# Altium footprint library PC104_44B0 V3.0.PcbLib: 40 footprints (part 3 of 3)
Each footprint in its own frame and in the unit in brackets; x right, y up, seen from the top. Pads: shape width x height; smd on the part's side, far side on the other; paste and mask are expansions set on the pad; w line width, h text height; cw(c..) or ccw(c..) is an arc to the next point about the centre after c.
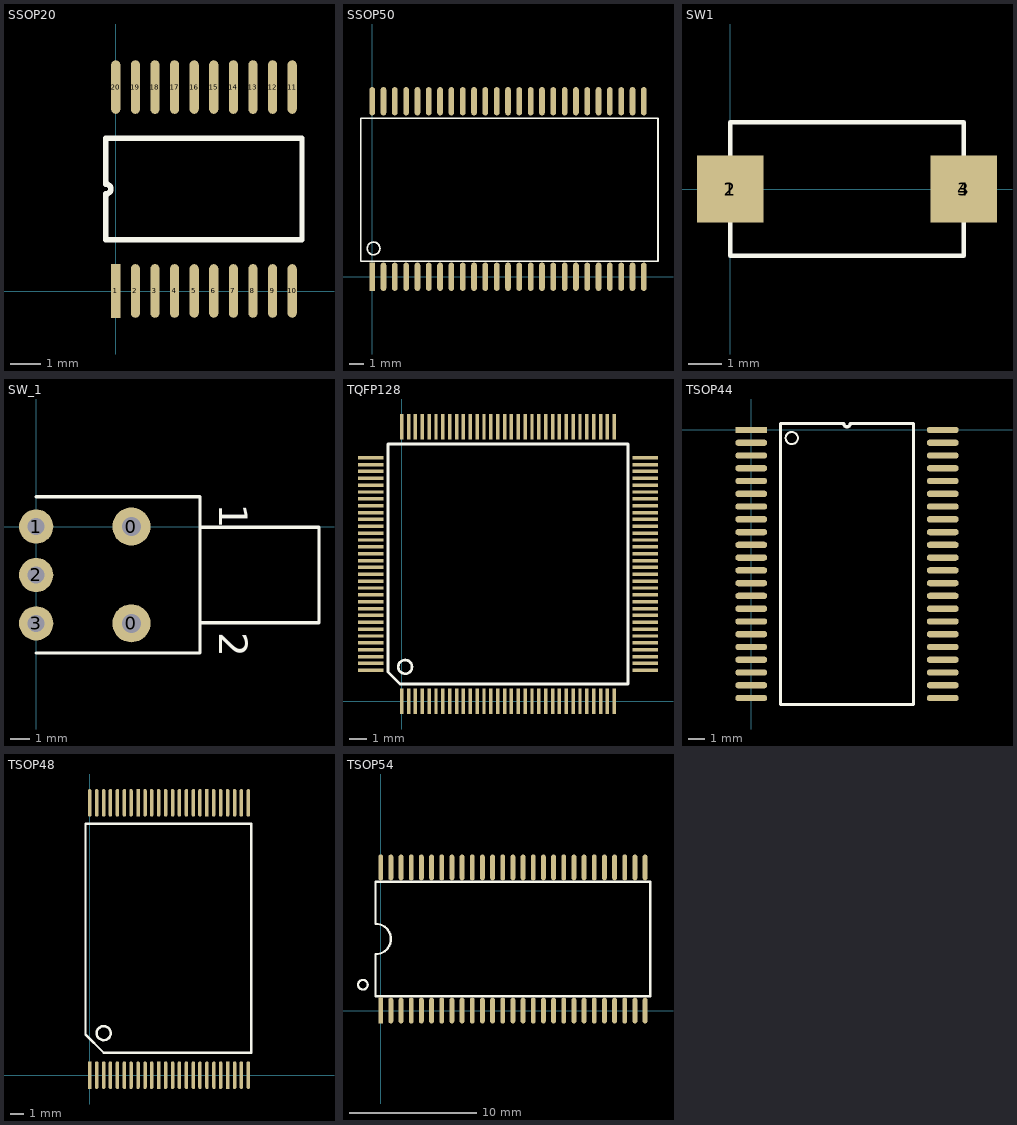
[diagram p2: the footprints below, top view; thin cyan lines are the x and y axes]

## SSOP20 [mil]
pads (20):
  rect 12x70 smd: 1(0,0.06)
  oval 12x70 smd: 2(25.59,0.06) 3(51.18,0.06) 4(76.77,0.06) 5(102.36,0.06) 6(127.95,0.06) 7(153.54,0.06) 8(179.13,0.06) 9(204.72,0.06) 10(230.31,0.06) 11(230.31,266.28) 12(204.72,266.28) 13(179.13,266.28) 14(153.54,266.28) 15(127.95,266.28) 16(102.36,266.28) 17(76.77,266.28) 18(51.18,266.28) 19(25.59,266.28) 20(0,266.28)
TopOverlay:
  lines w7.09: -12.79,66.84 243.11,66.84 243.11,199.51 -12.79,199.51 -12.79,139.57 cw(c-12.79,133.17) -12.8,126.78 -12.79,66.84

## SSOP50 [mm]
pads (50):
  rect 0.4x2 smd: 1(0,0)
  oval 0.4x2 smd: 2(0.8,0) 3(1.6,0) 4(2.4,0) 5(3.2,0) 6(4,0) 7(4.8,0) 8(5.6,0) 9(6.4,0) 10(7.2,0) 11(8,0) 12(8.8,0) 13(9.6,0) 14(10.4,0) 15(11.2,0) 16(12,0) 17(12.8,0) 18(13.6,0) 19(14.4,0) 20(15.2,0) 21(16,0) 22(16.8,0) 23(17.6,0) 24(18.4,0) 25(19.2,0) 26(19.2,12.4) 27(18.4,12.4) 28(17.6,12.4) 29(16.8,12.4) 30(16,12.4) 31(15.2,12.4) 32(14.4,12.4) 33(13.6,12.4) 34(12.8,12.4) 35(12,12.4) 36(11.2,12.4) 37(10.4,12.4) 38(9.6,12.4) 39(8.8,12.4) 40(8,12.4) 41(7.2,12.4) 42(6.4,12.4) 43(5.6,12.4) 44(4.8,12.4) 45(4,12.4) 46(3.2,12.4) 47(2.4,12.4) 48(1.6,12.4) 49(0.8,12.4) 50(0,12.4)
TopOverlay:
  circle w0.127: c0.1,2 r0.447
  lines w0.127: -0.8,1.1 -0.8,11.2 20.2,11.2 20.2,1.1 -0.8,1.1

## SW1 [mm]
pads (4):
  rect 2x2 smd: 1(0,0) 2(0,0) 3(7,0) 4(7,0)
TopOverlay:
  lines w0.127: 0,-2 0,2 7,2 7,-2 0,-2

## SW_1 [mm]
pads (5):
  round 2 hole 1: 0(4.992,-5.08) 0(4.992,0)
  round 1.8 hole 0.9: 1(-0.008,0) 2(-0.008,-2.54) 3(-0.008,-5.08)
TopOverlay:
  lines w0.178: -0.008,-6.64 8.592,-6.64 8.592,1.56 -0.008,1.56 ; 8.592,-5.04 14.842,-5.04 14.842,-0.04 8.592,-0.04
  text "1" at 9.592,1.21 h1.5
  text "2" at 9.592,-5.54 h1.5

## TQFP128 [mm]
pads (128):
  rect 0.203x1.5 smd: 1(0,0) 2(0.4,0) 3(0.8,0) 4(1.2,0) 5(1.6,0) 6(2,0) 7(2.4,0) 8(2.8,0) 9(3.2,0) 10(3.6,0) 11(4,0) 12(4.4,0) 13(4.8,0) 14(5.2,0) 15(5.6,0) 16(6,0) 17(6.4,0) 18(6.8,0) 19(7.2,0) 20(7.6,0) 21(8,0) 22(8.4,0) 23(8.8,0) 24(9.2,0) 25(9.6,0) 26(10,0) 27(10.4,0) 28(10.8,0) 29(11.2,0) 30(11.6,0) 31(12,0) 32(12.4,0) 65(12.4,16) 66(12,16) 67(11.6,16) 68(11.2,16) 69(10.8,16) 70(10.4,16) 71(10,16) 72(9.6,16) 73(9.2,16) 74(8.8,16) 75(8.4,16) 76(8,16) 77(7.6,16) 78(7.2,16) 79(6.8,16) 80(6.4,16) 81(6,16) 82(5.6,16) 83(5.2,16) 84(4.8,16) 85(4.4,16) 86(4,16) 87(3.6,16) 88(3.2,16) 89(2.8,16) 90(2.4,16) 91(2,16) 92(1.6,16) 93(1.2,16) 94(0.8,16) 95(0.4,16) 96(0,16)
  rect 1.5x0.203 smd: 33(14.2,1.8) 34(14.2,2.2) 35(14.2,2.6) 36(14.2,3) 37(14.2,3.4) 38(14.2,3.8) 39(14.2,4.2) 40(14.2,4.6) 41(14.2,5) 42(14.2,5.4) 43(14.2,5.8) 44(14.2,6.2) 45(14.2,6.6) 46(14.2,7) 47(14.2,7.4) 48(14.2,7.8) 49(14.2,8.2) 50(14.2,8.6) 51(14.2,9) 52(14.2,9.4) 53(14.2,9.8) 54(14.2,10.2) 55(14.2,10.6) 56(14.2,11) 57(14.2,11.4) 58(14.2,11.8) 59(14.2,12.2) 60(14.2,12.6) 61(14.2,13) 62(14.2,13.4) 63(14.2,13.8) 64(14.2,14.2) 97(-1.8,14.2) 98(-1.8,13.8) 99(-1.8,13.4) 100(-1.8,13) 101(-1.8,12.6) 102(-1.8,12.2) 103(-1.8,11.8) 104(-1.8,11.4) 105(-1.8,11) 106(-1.8,10.6) 107(-1.8,10.2) 108(-1.8,9.8) 109(-1.8,9.4) 110(-1.8,9) 111(-1.8,8.6) 112(-1.8,8.2) 113(-1.8,7.8) 114(-1.8,7.4) 115(-1.8,7) 116(-1.8,6.6) 117(-1.8,6.2) 118(-1.8,5.8) 119(-1.8,5.4) 120(-1.8,5) 121(-1.8,4.6) 122(-1.8,4.2) 123(-1.8,3.8) 124(-1.8,3.4) 125(-1.8,3) 126(-1.8,2.6) 127(-1.8,2.2) 128(-1.8,1.8)
TopOverlay:
  circle w0.15: c0.2,2 r0.4
  lines w0.15: -0.8,1.7 -0.2,1.1 -0.1,1 13.2,1 13.2,15 -0.8,15 -0.8,1.7

## TSOP44 [mm]
pads (44):
  rect 2x0.4 smd: 1(0,0)
  oval 2x0.4 smd: 2(0,-0.8) 3(0,-1.6) 4(0,-2.4) 5(0,-3.2) 6(0,-4) 7(0,-4.8) 8(0,-5.6) 9(0,-6.4) 10(0,-7.2) 11(0,-8) 12(0,-8.8) 13(0,-9.6) 14(0,-10.4) 15(0,-11.2) 16(0,-12) 17(0,-12.8) 18(0,-13.6) 19(0,-14.4) 20(0,-15.2) 21(0,-16) 22(0,-16.8) 23(12,-16.8) 24(12,-16) 25(12,-15.2) 26(12,-14.4) 27(12,-13.6) 28(12,-12.8) 29(12,-12) 30(12,-11.2) 31(12,-10.4) 32(12,-9.6) 33(12,-8.8) 34(12,-8) 35(12,-7.2) 36(12,-6.4) 37(12,-5.6) 38(12,-4.8) 39(12,-4) 40(12,-3.2) 41(12,-2.4) 42(12,-1.6) 43(12,-0.8) 44(12,0)
TopOverlay:
  circle w0.127: c2.54,-0.508 r0.381
  lines w0.203: 1.838,-17.2 1.838,0.4 5.8,0.4 ccw(c6,0.4) 6.2,0.4 10.162,0.4 10.162,-17.2 1.838,-17.2

## TSOP48 [mil]
pads (48):
  rect 10x79 smd: 1(0,0) 11(197,0.02) 21(394,0.02) 31(335,778) 41(138,778.02)
  oval 10x79 smd: 2(20,0.02) 3(40,0.02) 4(59,0.02) 5(79,0.02) 6(99,0.02) 7(118,0.02) 8(138,0.02) 9(158,0.02) 10(177,0) 12(217,0.02) 13(237,0.02) 14(256,0.02) 15(276,0.02) 16(296,0.02) 17(315,0.02) 18(335,0.02) 19(355,0.02) 20(374,0) 22(414,0.02) 23(433,0.02) 24(453,0.02) 25(453,778.02) 26(433,778.02) 27(414,778.02) 28(394,778.02) 29(374,778) 30(354,778) 32(315,778.02) 33(296,778.02) 34(276,778.02) 35(256,778.02) 36(237,778.02) 37(217,778.02) 38(197,778.02) 39(177,778.02) 40(158,778) 42(118,778.02) 43(99,778.02) 44(79,778.02) 45(59,778.02) 46(40,778.02) 47(20,778.02) 48(0,778.02)
TopOverlay:
  circle w7: c40,120 r20
  lines w7: -12,116.02 -12,718.02 461,718.02 461,64.02 40,64.02 -12,116.02

## TSOP54 [mil]
pads (54):
  rect 15x80 smd: 1(0,0)
  oval 15x80 smd: 2(31.5,0) 3(62.99,0) 4(94.49,0) 5(125.98,0) 6(157.48,0) 7(188.98,0) 8(220.47,0) 9(251.97,0) 10(283.47,0) 11(314.96,0) 12(346.46,0) 13(377.95,0) 14(409.45,0) 15(440.94,0) 16(472.44,0) 17(503.94,0) 18(535.43,0) 19(566.93,0) 20(598.43,0) 21(629.92,0) 22(661.42,0) 23(692.91,0) 24(724.41,0) 25(755.91,0) 26(787.4,0) 27(818.9,0) 28(818.9,443.31) 29(787.4,443.31) 30(755.91,443.31) 31(724.41,443.31) 32(692.91,443.31) 33(661.42,443.31) 34(629.92,443.31) 35(598.43,443.31) 36(566.93,443.31) 37(535.43,443.31) 38(503.94,443.31) 39(472.44,443.31) 40(440.94,443.31) 41(409.45,443.31) 42(377.95,443.31) 43(346.46,443.31) 44(314.96,443.31) 45(283.47,443.31) 46(251.97,443.31) 47(220.47,443.31) 48(188.98,443.31) 49(157.48,443.31) 50(125.98,443.31) 51(94.49,443.31) 52(62.99,443.31) 53(31.5,443.31) 54(0,443.31)
TopOverlay:
  circle w7: c-55.31,80 r15
  lines w7: -15.75,173.78 -15.75,44.37 834.65,44.37 834.65,398.94 -15.75,398.94 -15.75,269.53 ; -15.75,174.41 ccw(c-15.75,221.65) -15.75,268.9